# Altium schematic symbol library ESP32-S3-WROOM-1.SchLib: 61 symbols (part 6 of 7)
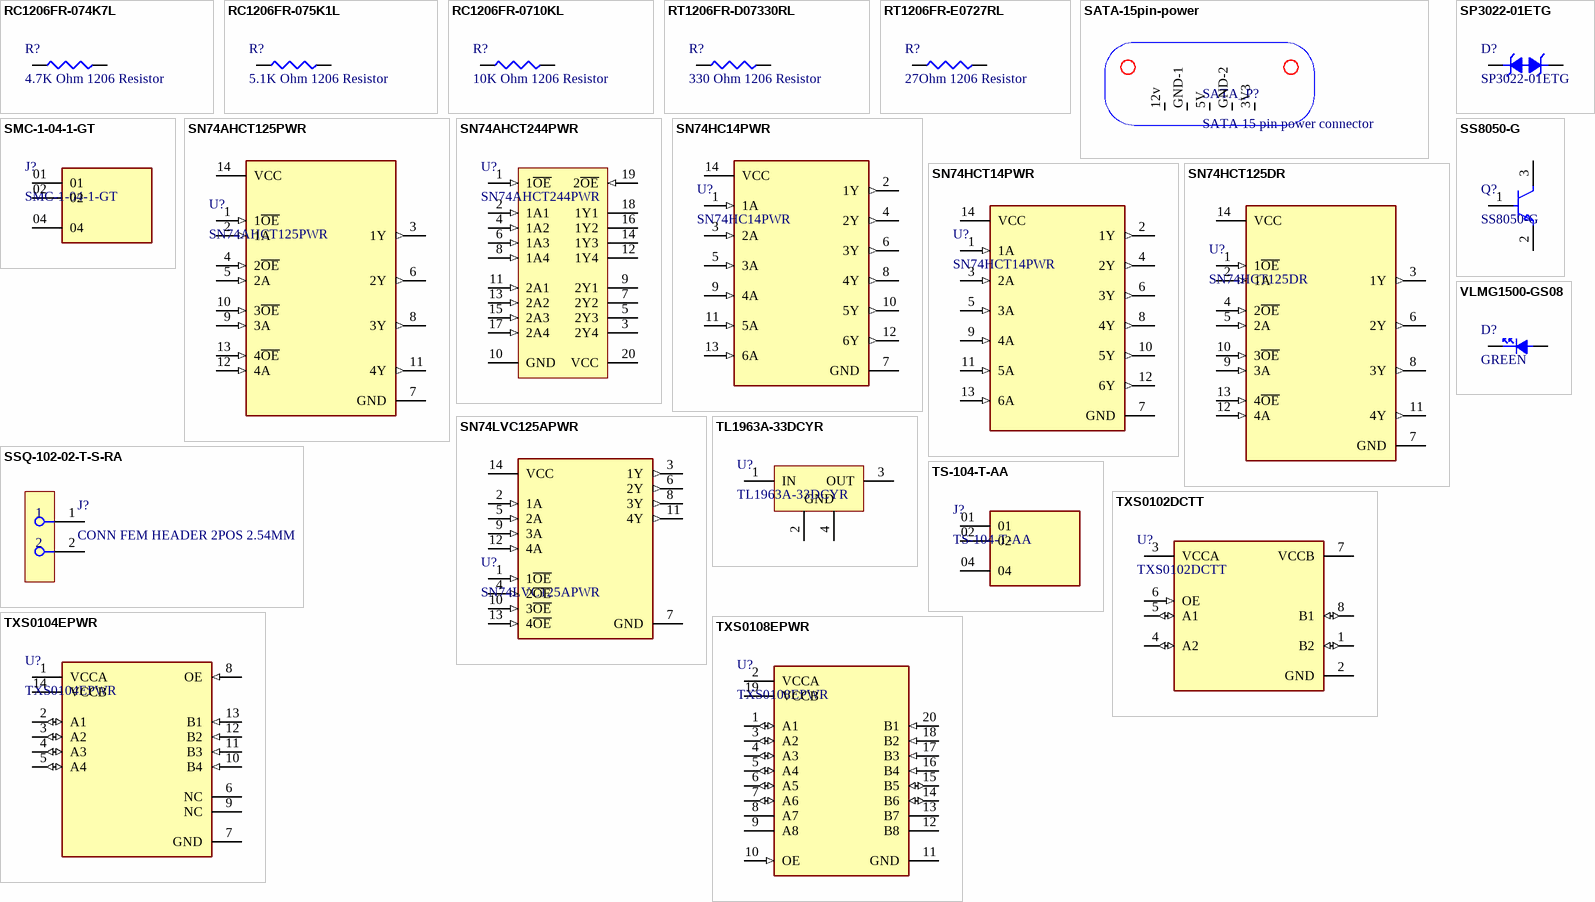
[diagram p6: symbols RC1206FR-074K7L to VLMG1500-GS08]

## SN74LVC125APWR
designator U?
IC BUFF NON-INVERT 3.6V 14-TSSOP; Manufacturer: Texas Instruments; Manufacturer Lifecycle Status: ACTIVE; High Level Output Current: -24mA; Logic Function: Buffer, Inverting; Low Level Output Current: 24mA; Max Power Dissipation: 500mW; Min Supply Voltage: 1.65V; Nominal Supply Current: 1µA; Number of Bits: 4; Number of Bits per Element: 1; Number of Output Lines: 3; Polarity: Non-Inverting; Propagation Delay: 3ns; Turn-On Delay Time: 5.3ns; Supplier: DigiKey; Supplier Part Number: 296-1222-1-ND; Manufacturer Part Number: SN74LVC125APWR; RoHS: Compliant; Category: Buffers, Drivers and Transceivers; Pricing: 1=0.32, 10=0.22, 25=0.32, 100=0.169, 250=0.15624, 500=0.14854, 1000=0.14221 (EUR); Case/Package: TSSOP; Contact Plating: Gold; Height: 0m; Lead Free: Lead Free; Length: 5mm; Lifecycle Status: Production; Max Operating Temperature: 125°C; Max Supply Voltage: 3.6V; Min Operating Temperature: -40°C; Mounting Technology: Surface Mount; Number of Channels: 4; Number of Circuits: 4; Number of Elements: 4; Number of Gates: 4; Number of Input Lines: 4; Number of Inputs: 4; Number of Outputs: 4; Pins: 14; Quiescent Current: 1µA; Radiation Hardening: No; REACH SVHC: No; Schedule B: 8542390000, 8542390000|8542390000|8542390000|8542390000|8542390000; Termination: SMD/SMT; Thickness: 1mm; Width: 4.4mm; ComponentLink1URL: https://sigma.octopart.com:443/182471031/technical_drawing/Texas-Instruments-SN74LVC125APWR.pdf?src-supplier=Texas+Instruments; ComponentLink1Description: https://sigma.octopart.com:443/182471031/technical_drawing/Texas-Instruments-SN74LVC125APWR.pdf?src-supplier=Texas+Instruments; ComponentLink2URL: https://octopart.com:443/opatz8j6/c1?t=m7tao46Cp5BsUR2xromxzcu3oyl3UTX2gSNpLcE7RSWnyA1bQlshO2PU7CYxg6hfD9UrHGXilfRXLnjlrfE5w5kuYWmj-tJCYobuLsDToAOK1nIBV0ONYcJLH1_lESx9fviRCOW4VE7n0ZX3Hmg4ZcGY_rK9D-_gs0tQkOIQzTQmwu3Ya5qSTNAkHV7h3Z-kGtrXzc7b3YEboIecKnWr6GWore2FsFKhC6Lr9KwAgRBdK9X6SrQOo5Eb11oGInVgxhKaIWuGbajALS1G30ssv9H2oVfdBG0eVA0umxvZs4CxE-QhSBDAdp1FUXwVZ_l4bHMif_Slmx_GFebhfHJwZRz9uFheQxDe-vdWkP1MZL1g_AEC6eOsKIj10qOuI-F5FmlBkyTL2A&src-supplier=Texas+Instruments; ComponentLink2Description: https://octopart.com:443/opatz8j6/c1?t=m7tao46Cp5BsUR2xromxzcu3oyl3UTX2gSNpLcE7RSWnyA1bQlshO2PU7CYxg6hfD9UrHGXilfRXLnjlrfE5w5kuYWmj-tJCYobuLsDToAOK1nIBV0ONYcJLH1_lESx9fviRCOW4VE7n0ZX3Hmg4ZcGY_rK9D-_gs0tQkOIQzTQmwu3Ya5qSTNAkHV7h3Z-kGtrXzc7b3YEboIecKnWr6GWore2FsFKhC6Lr9KwAgRBdK9X6SrQOo5Eb11oGInVgxhKaIWuGbajALS1G30ssv9H2oVfdBG0eVA0umxvZs4CxE-QhSBDAdp1FUXwVZ_l4bHMif_Slmx_GFebhfHJwZRz9uFheQxDe-vdWkP1MZL1g_AEC6eOsKIj10qOuI-F5FmlBkyTL2A&src-supplier=Texas+Instruments; ComponentLink3URL: https://datasheet.octopart.com:443/SN74LVC125APWR-Texas-Instruments-datasheet-10254735.pdf?src-supplier=Texas+Instruments; ComponentLink3Description: https://datasheet.octopart.com:443/SN74LVC125APWR-Texas-Instruments-datasheet-10254735.pdf?src-supplier=Texas+Instruments; ComponentLink4URL: https://sigma.octopart.com:443/49249819/technical_drawing/Texas-Instruments-SN74LVC125APWR.pdf?src-supplier=Texas+Instruments; ComponentLink4Description: https://sigma.octopart.com:443/49249819/technical_drawing/Texas-Instruments-SN74LVC125APWR.pdf?src-supplier=Texas+Instruments; ComponentLink5URL: https://datasheet.octopart.com:443/SN74LVC125APWR-Texas-Instruments-datasheet-150516.pdf?src-supplier=Texas+Instruments; ComponentLink5Description: https://datasheet.octopart.com:443/SN74LVC125APWR-Texas-Instruments-datasheet-150516.pdf?src-supplier=Texas+Instruments; ComponentLink6URL: https://datasheet.octopart.com:443/SN74LVC125APWR-Texas-Instruments-datasheet-37101729.pdf?src-supplier=Farnell; ComponentLink6Description: https://datasheet.octopart.com:443/SN74LVC125APWR-Texas-Instruments-datasheet-37101729.pdf?src-supplier=Farnell; ComponentLink7URL: https://datasheet.octopart.com:443/SN74LVC125APWR-Texas-Instruments-datasheet-8815742.pdf?src-supplier=Farnell; ComponentLink7Description: https://datasheet.octopart.com:443/SN74LVC125APWR-Texas-Instruments-datasheet-8815742.pdf?src-supplier=Farnell; ComponentLink8URL: https://datasheet.octopart.com:443/SN74LVC125APWR-Texas-Instruments-datasheet-8758542.pdf?src-supplier=Farnell; ComponentLink8Description: https://datasheet.octopart.com:443/SN74LVC125APWR-Texas-Instruments-datasheet-8758542.pdf?src-supplier=Farnell; ComponentLink9URL: https://datasheet.octopart.com:443/SN74LVC125APWR-Texas-Instruments-datasheet-8384538.pdf?src-supplier=Farnell; ComponentLink9Description: https://datasheet.octopart.com:443/SN74LVC125APWR-Texas-Instruments-datasheet-8384538.pdf?src-supplier=Farnell; ComponentLink10URL: https://datasheet.octopart.com:443/SN74LVC125APWR-Texas-Instruments-datasheet-8141996.pdf?src-supplier=Farnell; ComponentLink10Description: https://datasheet.octopart.com:443/SN74LVC125APWR-Texas-Instruments-datasheet-8141996.pdf?src-supplier=Farnell; ComponentLink11URL: https://datasheet.octopart.com:443/SN74LVC125APWR-Texas-Instruments-datasheet-5375601.pdf?src-supplier=Farnell; ComponentLink11Description: https://datasheet.octopart.com:443/SN74LVC125APWR-Texas-Instruments-datasheet-5375601.pdf?src-supplier=Farnell; ComponentLink12URL: https://datasheet.octopart.com:443/SN74LVC125APWR.-Texas-Instruments-datasheet-48051172.pdf?src-supplier=Farnell; ComponentLink12Description: https://datasheet.octopart.com:443/SN74LVC125APWR.-Texas-Instruments-datasheet-48051172.pdf?src-supplier=Farnell; ComponentLink13URL: https://datasheet.octopart.com:443/SN74LVC125APWR-Texas-Instruments-datasheet-10079432.pdf?src-supplier=Farnell; ComponentLink13Description: https://datasheet.octopart.com:443/SN74LVC125APWR-Texas-Instruments-datasheet-10079432.pdf?src-supplier=Farnell; ComponentLink14URL: https://datasheet.octopart.com:443/SN74LVC125APWR-Texas-Instruments-datasheet-8703072.pdf?src-supplier=Farnell; ComponentLink14Description: https://datasheet.octopart.com:443/SN74LVC125APWR-Texas-Instruments-datasheet-8703072.pdf?src-supplier=Farnell; ComponentLink15URL: https://datasheet.octopart.com:443/SN74LVC125APWR-Texas-Instruments-datasheet-8702091.pdf?src-supplier=Farnell; ComponentLink15Description: https://datasheet.octopart.com:443/SN74LVC125APWR-Texas-Instruments-datasheet-8702091.pdf?src-supplier=Farnell; ComponentLink16URL: https://datasheet.octopart.com:443/SN74LVC125APWR-Texas-Instruments-datasheet-8636213.pdf?src-supplier=Farnell; ComponentLink16Description: https://datasheet.octopart.com:443/SN74LVC125APWR-Texas-Instruments-datasheet-8636213.pdf?src-supplier=Farnell; ComponentLink17URL: https://datasheet.octopart.com:443/SN74LVC125APWR-Texas-Instruments-datasheet-7836027.pdf?src-supplier=Farnell; ComponentLink17Description: https://datasheet.octopart.com:443/SN74LVC125APWR-Texas-Instruments-datasheet-7836027.pdf?src-supplier=Farnell; ComponentLink18URL: https://datasheet.octopart.com:443/SN74LVC125APWR-Texas-Instruments-datasheet-7543160.pdf?src-supplier=Farnell; ComponentLink18Description: https://datasheet.octopart.com:443/SN74LVC125APWR-Texas-Instruments-datasheet-7543160.pdf?src-supplier=Farnell; ComponentLink19URL: https://datasheet.octopart.com:443/SN74LVC125APWR-Texas-Instruments-datasheet-5319739.pdf?src-supplier=Farnell; ComponentLink19Description: https://datasheet.octopart.com:443/SN74LVC125APWR-Texas-Instruments-datasheet-5319739.pdf?src-supplier=Farnell; ComponentLink20URL: https://datasheet.octopart.com:443/SN74LVC125APWR-Texas-Instruments-datasheet-21221564.pdf?src-supplier=Upverter; ComponentLink20Description: https://datasheet.octopart.com:443/SN74LVC125APWR-Texas-Instruments-datasheet-21221564.pdf?src-supplier=Upverter; ComponentLink21URL: https://datasheet.octopart.com:443/SN74LVC125APWR-Texas-Instruments-datasheet-62118761.pdf?src-supplier=Newark; ComponentLink21Description: https://datasheet.octopart.com:443/SN74LVC125APWR-Texas-Instruments-datasheet-62118761.pdf?src-supplier=Newark; ComponentLink22URL: https://datasheet.octopart.com:443/SN74LVC125APWR-Texas-Instruments-datasheet-79172.pdf?src-supplier=Newark; ComponentLink22Description: https://datasheet.octopart.com:443/SN74LVC125APWR-Texas-Instruments-datasheet-79172.pdf?src-supplier=Newark; ComponentLink23URL: https://datasheet.octopart.com:443/SN74LVC125APWR-Texas-Instruments-datasheet-33018789.pdf?src-supplier=element14+APAC; ComponentLink23Description: https://datasheet.octopart.com:443/SN74LVC125APWR-Texas-Instruments-datasheet-33018789.pdf?src-supplier=element14+APAC; ComponentLink24URL: https://datasheet.octopart.com:443/SN74LVC125APWR-Texas-Instruments-datasheet-166100981.pdf?src-supplier=Augswan; ComponentLink24Description: https://datasheet.octopart.com:443/SN74LVC125APWR-Texas-Instruments-datasheet-166100981.pdf?src-supplier=Augswan; ComponentLink25URL: https://datasheet.octopart.com:443/SN74LVC125APWR-Texas-Instruments-datasheet-159116505.pdf?src-supplier=LCSC; ComponentLink25Description: https://datasheet.octopart.com:443/SN74LVC125APWR-Texas-Instruments-datasheet-159116505.pdf?src-supplier=LCSC; ComponentLink26URL: https://datasheet.octopart.com:443/SN74LVC125APWR-Texas-Instruments-datasheet-147835652.pdf?src-supplier=SHENGYU+ELECTRONICS; ComponentLink26Description: https://datasheet.octopart.com:443/SN74LVC125APWR-Texas-Instruments-datasheet-147835652.pdf?src-supplier=SHENGYU+ELECTRONICS; ComponentLink27URL: https://datasheet.octopart.com:443/SN74LVC125APWR-Texas-Instruments-datasheet-14144586.pdf?src-supplier=iiiC; ComponentLink27Description: https://datasheet.octopart.com:443/SN74LVC125APWR-Texas-Instruments-datasheet-14144586.pdf?src-supplier=iiiC; ComponentLink28URL: https://datasheet.octopart.com:443/SN74LVC125APWR-Texas-Instruments-datasheet-11536687.pdf?src-supplier=Arrow+Electronics; ComponentLink28Description: https://datasheet.octopart.com:443/SN74LVC125APWR-Texas-Instruments-datasheet-11536687.pdf?src-supplier=Arrow+Electronics; ComponentLink29URL: https://datasheet.octopart.com:443/SN74LVC125APWR-Texas-Instruments-datasheet-7542750.pdf?src-supplier=Jameco; ComponentLink29Description: https://datasheet.octopart.com:443/SN74LVC125APWR-Texas-Instruments-datasheet-7542750.pdf?src-supplier=Jameco; ComponentLink30URL: https://datasheet.octopart.com:443/SN74LVC125APWR-Texas-Instruments-datasheet-114787.pdf?src-supplier=Sierra+IC; ComponentLink30Description: https://datasheet.octopart.com:443/SN74LVC125APWR-Texas-Instruments-datasheet-114787.pdf?src-supplier=Sierra+IC; ComponentLink31URL: https://datasheet.octopart.com:443/SN74LVC125APWR-Texas-Instruments-datasheet-32983.pdf?src-supplier=DigiKey; ComponentLink31Description: https://datasheet.octopart.com:443/SN74LVC125APWR-Texas-Instruments-datasheet-32983.pdf?src-supplier=DigiKey; ComponentLink32URL: http://sigma.octopart.com:80/conflict_mineral_statement/Texas-Instruments-company-63.pdf?src-supplier=Compliance+Statements; ComponentLink32Description: http://sigma.octopart.com:80/conflict_mineral_statement/Texas-Instruments-company-63.pdf?src-supplier=Compliance+Statements; ComponentLink33URL: http://sigma.octopart.com:80/reach_statement/Texas-Instruments-company-64.pdf?src-supplier=Compliance+Statements; ComponentLink33Description: http://sigma.octopart.com:80/reach_statement/Texas-Instruments-company-64.pdf?src-supplier=Compliance+Statements; LCSC Part Number: C7813
footprint SN74LVC125APWR
pins: 1 1~{OE} (in), 2 1A (in), 3 1Y (out), 4 2~{OE} (in), 5 2A (in), 6 2Y (out), 7 GND (power), 8 3Y (out), 9 3A (in), 10 3~{OE} (in), 11 4Y (out), 12 4A (in), 13 4~{OE} (in), 14 VCC (power)

## SP3022-01ETG
designator D?
TVS DIODE 5.3VWM 12VC SOD882; Manufacturer: Littelfuse; Clamping Voltage: 12V; Leakage Current: 100nA; Max Breakdown Voltage: 9V; Max Power Dissipation: 20W; Max Surge Current: 3A; Min Breakdown Voltage: 6.8V; Number of Bidirectional Channels: 1; Peak Pulse Current: 1A; Polarity: Bidirectional; Power Line Protection: No; Reverse Standoff Voltage: 5.3V; Supplier: DigiKey; Supplier Part Number: F6709CT-ND; Manufacturer Part Number: SP3022-01ETG; RoHS: Compliant; Category: TVS Diodes; Stock: 68383; Pricing: 1=0.15, 10=0.105 (EUR); Case/Package: SOD-882-2; Composition: Zener; Lifecycle Status: Production; Max Operating Temperature: 125°C; Min Operating Temperature: -40°C; Mounting Technology: Surface Mount; Number of Channels: 1; Number of Elements: 1; Pins: 2; Number of Terminals: 2; Peak Pulse Power: 20W; REACH SVHC: Yes; Termination: SMD/SMT; Working Voltage: 5.3V; ComponentLink1URL: https://datasheet.octopart.com:443/SP3022-01ETG-Littelfuse-datasheet-180609637.pdf?src-supplier=IHS; ComponentLink1Description: https://datasheet.octopart.com:443/SP3022-01ETG-Littelfuse-datasheet-180609637.pdf?src-supplier=IHS; ComponentLink2URL: https://datasheet.octopart.com:443/SP3022-01ETG-Littelfuse-datasheet-181956538.pdf?src-supplier=Newark; ComponentLink2Description: https://datasheet.octopart.com:443/SP3022-01ETG-Littelfuse-datasheet-181956538.pdf?src-supplier=Newark; ComponentLink3URL: https://datasheet.octopart.com:443/SP3022-01ETG-Littelfuse-datasheet-43876386.pdf?src-supplier=Newark; ComponentLink3Description: https://datasheet.octopart.com:443/SP3022-01ETG-Littelfuse-datasheet-43876386.pdf?src-supplier=Newark; ComponentLink4URL: https://datasheet.octopart.com:443/SP3022-01ETG-Littelfuse-datasheet-140480403.pdf?src-supplier=ODG+(Origin+Data+Global); ComponentLink4Description: https://datasheet.octopart.com:443/SP3022-01ETG-Littelfuse-datasheet-140480403.pdf?src-supplier=ODG+(Origin+Data+Global); ComponentLink5URL: https://datasheet.octopart.com:443/SP3022-01ETG-Littelfuse-datasheet-82968918.pdf?src-supplier=element14+APAC; ComponentLink5Description: https://datasheet.octopart.com:443/SP3022-01ETG-Littelfuse-datasheet-82968918.pdf?src-supplier=element14+APAC; ComponentLink6URL: https://datasheet.octopart.com:443/SP3022-01ETG-Littelfuse-datasheet-175469626.pdf?src-supplier=Future+Electronics; ComponentLink6Description: https://datasheet.octopart.com:443/SP3022-01ETG-Littelfuse-datasheet-175469626.pdf?src-supplier=Future+Electronics; ComponentLink7URL: https://datasheet.octopart.com:443/SP3022-01ETG-Littelfuse-datasheet-100434945.pdf?src-supplier=Future+Electronics; ComponentLink7Description: https://datasheet.octopart.com:443/SP3022-01ETG-Littelfuse-datasheet-100434945.pdf?src-supplier=Future+Electronics; Parameter 1: *; LCSC Part Number: C126840
footprint SP3022-01ETG
pins: 1, 2

## SS8050-G
designator Q?
TRANS NPN 25V 1.5A SOT-23-3; Manufacturer: Comchip; Collector Base Voltage (VCBO): 40V; Collector Emitter Saturation Voltage: 500mV; Emitter Base Voltage (VEBO): 5V; hFE Min: 40; Max Junction Temperature (Tj): 150°C; Max Power Dissipation: 300mW; Number of Elements: 1; Transition Frequency: 100MHz; Supplier: DigiKey; Supplier Part Number: 641-1790-1-ND; Manufacturer Part Number: SS8050-G; RoHS: Compliant; Category: BJTs; Stock: 59487; Pricing: 1=0.2, 10=0.126, 100=0.2, 500=0.05756, 1000=0.05078 (EUR); Case/Package: TO-236-3; Collector Emitter Breakdown Voltage: 25V; Collector Emitter Voltage (VCEO): 25V; Height: 1.15mm; Lifecycle Status: Production; Max Breakdown Voltage: 25V; Max Collector Current: 1.5A; Max Operating Temperature: 150°C; Mounting Technology: Surface Mount; Number of Terminals: 3; Power Dissipation: 300mW; REACH SVHC: Yes; Schedule B: 8541100070|8541100070|8541100070|8541100070|8541100070; ComponentLink1URL: https://datasheet.octopart.com:443/SS8050-G-Comchip-datasheet-180131983.pdf?src-supplier=IHS; ComponentLink1Description: https://datasheet.octopart.com:443/SS8050-G-Comchip-datasheet-180131983.pdf?src-supplier=IHS; ComponentLink2URL: https://datasheet.octopart.com:443/SS8050-G-Comchip-datasheet-155422643.pdf?src-supplier=Upverter; ComponentLink2Description: https://datasheet.octopart.com:443/SS8050-G-Comchip-datasheet-155422643.pdf?src-supplier=Upverter; ComponentLink3URL: https://datasheet.octopart.com:443/SS8050-G-Comchip-datasheet-189767092.pdf?src-supplier=ODG+(Origin+Data+Global); ComponentLink3Description: https://datasheet.octopart.com:443/SS8050-G-Comchip-datasheet-189767092.pdf?src-supplier=ODG+(Origin+Data+Global); LCSC Part Number: C164886
footprint SS8050-G
pins: 1 B, 2 E, 3 C

## SSQ-102-02-T-S-RA
designator J?, comment CONN FEM HEADER 2POS 2.54MM
CONN RCPT 2POS 0.1 TIN PCB R/A; Manufacturer: Samtec; Manufacturer Part Number: SSQ-102-02-T-S-RA; Manufacturer Lifecycle Status: PRODUCTION; Connector Type: Receptacle, Socket; Contact Resistance: 10mΩ; Current Rating: 6.3A; Max Current Rating: 7.6A; Max Voltage Rating (AC): 550V; Number of Contacts: 2; Voltage Rating: 655V; Voltage Rating (AC): 465V; Supplier: DigiKey; Supplier Part Number: SAM1195-02-ND; RoHS: Compliant; Category: Headers and Wire Housings; Stock: 1713; Pricing: 1=0.46, 10=0.39, 100=0.46, 500=0.29552, 1000=0.28141, 5000=0.25688 (EUR); Color: Black; Contact Material: Nickel, Tin; Contact Plating: Tin; Depth: 10.03mm; Height: 2.54mm; Housing Color: Black; Lead Free: Lead Free; Lead Length: 2.54mm; Length: 5.59mm; Lifecycle Status: Production; Max Operating Temperature: 105°C; Min Operating Temperature: -55°C; Mounting Technology: Through Hole; Number of Positions: 2; Number of Rows: 1; Orientation: Right Angle; Packaging: Bulk; Pitch: 2.54mm; Radiation Hardening: No; Termination: Solder; Voltage Rating (DC): 655V; Width: 8.51mm; ComponentLink1URL: https://datasheet.octopart.com:443/SSQ-102-02-T-S-RA-Samtec-datasheet-150873487.pdf?src-supplier=Upverter; ComponentLink1Description: https://datasheet.octopart.com:443/SSQ-102-02-T-S-RA-Samtec-datasheet-150873487.pdf?src-supplier=Upverter; ComponentLink2URL: https://sigma.octopart.com:443/17020302/technical_drawing/Samtec-SSQ-102-02-T-S-RA.pdf?src-supplier=Upverter; ComponentLink2Description: https://sigma.octopart.com:443/17020302/technical_drawing/Samtec-SSQ-102-02-T-S-RA.pdf?src-supplier=Upverter; ComponentLink3URL: https://datasheet.octopart.com:443/SSQ-102-02-T-S-RA-Samtec-datasheet-97291133.pdf?src-supplier=element14+APAC; ComponentLink3Description: https://datasheet.octopart.com:443/SSQ-102-02-T-S-RA-Samtec-datasheet-97291133.pdf?src-supplier=element14+APAC; ComponentLink4URL: https://sigma.octopart.com:443/97291134/technical_drawing/Samtec-SSQ-102-02-T-S-RA.pdf?src-supplier=Samtec; ComponentLink4Description: https://sigma.octopart.com:443/97291134/technical_drawing/Samtec-SSQ-102-02-T-S-RA.pdf?src-supplier=Samtec; ComponentLink5URL: https://datasheet.octopart.com:443/SSQ-102-02-T-S-RA-Samtec-datasheet-118235309.pdf?src-supplier=Electro+Sonic; ComponentLink5Description: https://datasheet.octopart.com:443/SSQ-102-02-T-S-RA-Samtec-datasheet-118235309.pdf?src-supplier=Electro+Sonic; ComponentLink6URL: https://datasheet.octopart.com:443/SSQ-102-02-T-S-RA-Samtec-datasheet-86818373.pdf?src-supplier=Sager+Electronics; ComponentLink6Description: https://datasheet.octopart.com:443/SSQ-102-02-T-S-RA-Samtec-datasheet-86818373.pdf?src-supplier=Sager+Electronics; ComponentLink7URL: https://datasheet.octopart.com:443/SSQ-102-02-T-S-RA-Samtec-datasheet-133811811.pdf?src-supplier=JRH+Electronics; ComponentLink7Description: https://datasheet.octopart.com:443/SSQ-102-02-T-S-RA-Samtec-datasheet-133811811.pdf?src-supplier=JRH+Electronics; LCSC Part Number: C6824759
footprint SSQ-102-02-T-S-RA (Recommended Land Pattern)
pins: 1, 2

## TL1963A-33DCYR
designator U?
IC REG LIN 3.3V 1.5A SOT-223-4; Manufacturer: Texas Instruments; Manufacturer Lifecycle Status: ACTIVE; Accuracy: 3%; Dropout Voltage: 340mV; Input Bias Current: 1mA; Max Supply Voltage: 20V; Min Current Limit: 1.6A; Min Input Voltage: 2.1V; Number of Outputs: 1; Output Type: Fixed; Polarity: Positive; Supplier: DigiKey; Supplier Part Number: 296-24897-1-ND; Manufacturer Part Number: TL1963A-33DCYR; RoHS: Compliant; Category: LDO Voltage Regulators; Stock: 5375; Pricing: 1=3.13, 10=2.344, 25=2.1476, 100=1.9323, 250=1.82956, 500=1.76766, 1000=1.71669 (USD); Case/Package: SOT-223; Contact Plating: Tin; Height: 1.8mm; Lead Free: Lead Free; Length: 6.5mm; Lifecycle Status: Production; Max Operating Temperature: 125°C; Max Output current: 1.5A; Max Output Voltage: 3.3V; Min Operating Temperature: -40°C; Min Output Voltage: 3.3V; Nominal Output Voltage: 3.3V; Pins: 4; Number of Regulators: 1; Output Current: 1.5A; Output Voltage: 3.3V; Quiescent Current: 1mA; Radiation Hardening: No; REACH SVHC: No; Schedule B: 8542390000, 8542390000|8542390000|8542390000|8542390000|8542390000; Thickness: 1.6mm; Width: 3.5mm; ComponentLink1URL: https://datasheet.octopart.com:443/TL1963A-33DCYR-Texas-Instruments-datasheet-36835243.pdf?src-supplier=Texas+Instruments; ComponentLink1Description: https://datasheet.octopart.com:443/TL1963A-33DCYR-Texas-Instruments-datasheet-36835243.pdf?src-supplier=Texas+Instruments; ComponentLink2URL: https://octopart.com:443/opatz8j6/c1?t=_hjM26srJTXimlWoz0hwPmhPShOdWqTTtZlxgPl76YIpI1e1lfOz6vFK3g9fy8jCwZdjRD39bKFl-SwUtt_X2elGu_a5JyIUi3ab4jqFwEdIcyGCqZDuCLNIP_w3GIZJ3P8n--D5b1rjIWS7LXwM19STenXNZbu8p0KFA8W7oBQV_ivRudpmZT50mMX2Vp98314N_6rp1Q36UB5gvpMsO63PTK3-vNOMGMPut6fT06y9PbrxSSFyecCsjNz6UlCyiFpcw-0KU9-TlLviTiFtZ9ayjlXBaBFlI8Jpt0Bt73Yqu16_MFihcf6dJVjVpyanKPDUZcqeEH_eZkGEYIRopIdqDftcfwP1SsajeGZNSMlrkFfMF6GGJRK0ej6tF3tO9HLN2g&src-supplier=Texas+Instruments; ComponentLink2Description: https://octopart.com:443/opatz8j6/c1?t=_hjM26srJTXimlWoz0hwPmhPShOdWqTTtZlxgPl76YIpI1e1lfOz6vFK3g9fy8jCwZdjRD39bKFl-SwUtt_X2elGu_a5JyIUi3ab4jqFwEdIcyGCqZDuCLNIP_w3GIZJ3P8n--D5b1rjIWS7LXwM19STenXNZbu8p0KFA8W7oBQV_ivRudpmZT50mMX2Vp98314N_6rp1Q36UB5gvpMsO63PTK3-vNOMGMPut6fT06y9PbrxSSFyecCsjNz6UlCyiFpcw-0KU9-TlLviTiFtZ9ayjlXBaBFlI8Jpt0Bt73Yqu16_MFihcf6dJVjVpyanKPDUZcqeEH_eZkGEYIRopIdqDftcfwP1SsajeGZNSMlrkFfMF6GGJRK0ej6tF3tO9HLN2g&src-supplier=Texas+Instruments; ComponentLink3URL: https://datasheet.octopart.com:443/TL1963A-33DCYR-Texas-Instruments-datasheet-10255270.pdf?src-supplier=Texas+Instruments; ComponentLink3Description: https://datasheet.octopart.com:443/TL1963A-33DCYR-Texas-Instruments-datasheet-10255270.pdf?src-supplier=Texas+Instruments; ComponentLink4URL: https://sigma.octopart.com:443/49253063/technical_drawing/Texas-Instruments-TL1963A-33DCYR.pdf?src-supplier=Texas+Instruments; ComponentLink4Description: https://sigma.octopart.com:443/49253063/technical_drawing/Texas-Instruments-TL1963A-33DCYR.pdf?src-supplier=Texas+Instruments; ComponentLink5URL: https://datasheet.octopart.com:443/TL1963A-33DCYR-Texas-Instruments-datasheet-159117591.pdf?src-supplier=Augswan; ComponentLink5Description: https://datasheet.octopart.com:443/TL1963A-33DCYR-Texas-Instruments-datasheet-159117591.pdf?src-supplier=Augswan; ComponentLink6URL: https://datasheet.octopart.com:443/TL1963A-33DCYR-Texas-Instruments-datasheet-21820479.pdf?src-supplier=Newark; ComponentLink6Description: https://datasheet.octopart.com:443/TL1963A-33DCYR-Texas-Instruments-datasheet-21820479.pdf?src-supplier=Newark; ComponentLink7URL: https://datasheet.octopart.com:443/TL1963A-33DCYR-Texas-Instruments-datasheet-16079880.pdf?src-supplier=Farnell; ComponentLink7Description: https://datasheet.octopart.com:443/TL1963A-33DCYR-Texas-Instruments-datasheet-16079880.pdf?src-supplier=Farnell; ComponentLink8URL: https://datasheet.octopart.com:443/TL1963A-33DCYR-Texas-Instruments-datasheet-14171511.pdf?src-supplier=iiiC; ComponentLink8Description: https://datasheet.octopart.com:443/TL1963A-33DCYR-Texas-Instruments-datasheet-14171511.pdf?src-supplier=iiiC; ComponentLink9URL: http://sigma.octopart.com:80/conflict_mineral_statement/Texas-Instruments-company-63.pdf?src-supplier=Compliance+Statements; ComponentLink9Description: http://sigma.octopart.com:80/conflict_mineral_statement/Texas-Instruments-company-63.pdf?src-supplier=Compliance+Statements; ComponentLink10URL: http://sigma.octopart.com:80/reach_statement/Texas-Instruments-company-64.pdf?src-supplier=Compliance+Statements; ComponentLink10Description: http://sigma.octopart.com:80/reach_statement/Texas-Instruments-company-64.pdf?src-supplier=Compliance+Statements; LCSC Part Number: C181262
footprint TL1963A-33DCYR (SOT223, 4-Leads, Body 6.7x3.7mm, Pitch 2.3mm, IPC Medium Density)
pins: 1 IN (power) "Input. Power is supplied to the device through the IN pin. A bypass capacitor is required on this pin if the device is more than six inches away from the main input filter capacitor. In general, the output impedance of a (See Datasheet)", 2 GND (power) "Ground", 3 OUT (power) "Output. The output supplies power to the load. A minimum output capacitor (ceramic) of 10 uF is required to prevent oscillations. Larger output capacitors are required for applications with large transient loads to limit (See Datasheet)", 4 GND (power) "Ground"

## TS-104-T-AA
designator J?
NEEDLE CONN HEADER VERT 4POS 2.54MM; Manufacturer: Samtec; Manufacturer Lifecycle Status: PRODUCTION; Gender: Male; Max Current Rating: 1A; Number of Contacts: 4; Supplier: DigiKey; Supplier Part Number: SAM16040-ND; Manufacturer Part Number: TS-104-T-AA; RoHS: Compliant; Category: Headers and Wire Housings; Stock: 919; Pricing: 1=0.62, 50=0.4858, 100=0.62, 500=0.3324, 1000=0.31706 (EUR); Contact Material: Brass; Contact Plating: Tin; Lifecycle Status: Production; Max Operating Temperature: 105°C; Min Operating Temperature: -55°C; Mounting Technology: Through Hole; Number of Rows: 1; Orientation: Straight; Pitch: 2.54mm; Radiation Hardening: No; REACH SVHC: No; Termination: Solder; ComponentLink1URL: https://datasheet.octopart.com:443/TS-104-T-AA-Samtec-datasheet-97318998.pdf?src-supplier=Master+Electronics; ComponentLink1Description: https://datasheet.octopart.com:443/TS-104-T-AA-Samtec-datasheet-97318998.pdf?src-supplier=Master+Electronics; ComponentLink2URL: https://datasheet.octopart.com:443/TS-104-T-AA-Samtec-datasheet-150856305.pdf?src-supplier=Electro+Sonic; ComponentLink2Description: https://datasheet.octopart.com:443/TS-104-T-AA-Samtec-datasheet-150856305.pdf?src-supplier=Electro+Sonic; ComponentLink3URL: https://datasheet.octopart.com:443/TS-104-T-AA-Samtec-datasheet-13698575.pdf?src-supplier=Electro+Sonic; ComponentLink3Description: https://datasheet.octopart.com:443/TS-104-T-AA-Samtec-datasheet-13698575.pdf?src-supplier=Electro+Sonic; ComponentLink4URL: https://datasheet.octopart.com:443/TS-104-T-AA-Samtec-datasheet-37173861.pdf?src-supplier=Electro+Sonic; ComponentLink4Description: https://datasheet.octopart.com:443/TS-104-T-AA-Samtec-datasheet-37173861.pdf?src-supplier=Electro+Sonic; ComponentLink5URL: https://datasheet.octopart.com:443/TS-104-T-AA-Samtec-datasheet-41643166.pdf?src-supplier=Farnell; ComponentLink5Description: https://datasheet.octopart.com:443/TS-104-T-AA-Samtec-datasheet-41643166.pdf?src-supplier=Farnell; ComponentLink6URL: https://datasheet.octopart.com:443/TS-104-T-AA-Samtec-datasheet-28904454.pdf?src-supplier=Farnell; ComponentLink6Description: https://datasheet.octopart.com:443/TS-104-T-AA-Samtec-datasheet-28904454.pdf?src-supplier=Farnell; ComponentLink7URL: https://datasheet.octopart.com:443/TS-104-T-AA-Samtec-datasheet-8451641.pdf?src-supplier=Farnell; ComponentLink7Description: https://datasheet.octopart.com:443/TS-104-T-AA-Samtec-datasheet-8451641.pdf?src-supplier=Farnell; ComponentLink8URL: https://datasheet.octopart.com:443/TS-104-T-AA-Samtec-datasheet-179090728.pdf?src-supplier=Sager+Electronics; ComponentLink8Description: https://datasheet.octopart.com:443/TS-104-T-AA-Samtec-datasheet-179090728.pdf?src-supplier=Sager+Electronics; ComponentLink9URL: https://datasheet.octopart.com:443/TS-104-T-AA-Samtec-datasheet-118235246.pdf?src-supplier=Sager+Electronics; ComponentLink9Description: https://datasheet.octopart.com:443/TS-104-T-AA-Samtec-datasheet-118235246.pdf?src-supplier=Sager+Electronics; ComponentLink10URL: https://datasheet.octopart.com:443/TS-104-T-AA-Samtec-datasheet-116533476.pdf?src-supplier=Toby+Electronics; ComponentLink10Description: https://datasheet.octopart.com:443/TS-104-T-AA-Samtec-datasheet-116533476.pdf?src-supplier=Toby+Electronics; ComponentLink11URL: https://datasheet.octopart.com:443/TS-104-T-AA-Samtec-datasheet-116536303.pdf?src-supplier=Toby+Electronics; ComponentLink11Description: https://datasheet.octopart.com:443/TS-104-T-AA-Samtec-datasheet-116536303.pdf?src-supplier=Toby+Electronics; LCSC Part Number: C6886151
footprint TS-104-T-AA
pins: 01, 02, 04

## TXS0102DCTT
designator U?
IC XLTR VL BIDIR SM8; Manufacturer: Texas Instruments; Manufacturer Lifecycle Status: ACTIVE; Data Rate: 24Mbps; High Level Output Current: -20µA; Logic Function: Translator; Low Level Output Current: 1mA; Max Supply Voltage: 5.5V; Min Supply Voltage: 1.65V; Number of Bits: 2; Output Type: Voltage; Propagation Delay: 260ns; Quiescent Current: 14.4µA; Supplier: DigiKey; Supplier Part Number: 296-32603-1-ND; Manufacturer Part Number: TXS0102DCTT; RoHS: Compliant; Category: Voltage Level Shifters; Stock: 2646; Pricing: 1=0.84, 10=0.607, 25=0.84, 100=0.4823 (EUR); Case/Package: SSOP; Contact Plating: Gold; Height: 1.3mm; Lead Free: Lead Free; Length: 2.95mm; Lifecycle Status: Production; Max Operating Temperature: 85°C; Min Operating Temperature: -40°C; Mounting Technology: Surface Mount; Number of Channels: 2; Number of Inputs: 2; Pins: 8; Output Current: 1mA; Radiation Hardening: No; REACH SVHC: No; Schedule B: 8542390000, 8542390000|8542390000|8542390000|8542390000|8542390000; Thickness: 1.29mm; Turn-On Delay Time: 260ns; Weight: 23.388357mg; Width: 2.8mm; ComponentLink1URL: https://sigma.octopart.com:443/154719557/technical_drawing/Texas-Instruments-TXS0102DCTT.pdf?src-supplier=Texas+Instruments; ComponentLink1Description: https://sigma.octopart.com:443/154719557/technical_drawing/Texas-Instruments-TXS0102DCTT.pdf?src-supplier=Texas+Instruments; ComponentLink2URL: https://octopart.com:443/opatz8j6/c1?t=E4R2Eaax4hVGdPeEVzJ4gkUh3nnsrHoOour21Zl2PzEYQ-bKun46UuTQmN5SmJNlHr2MN0dygUqsw7JioWoTKuAP2BHlSCWFo-TjZUaVeYrSnVZSGJ_Glnf5uw4q0S6o2BkL99zqCVR0l2toQcRu2hlwiNrHpc73CtYInpQ0G1iz-OsDFe77UTdj8dJ9JwwwMiYUwKp_DG-WfXRvHH-QIAYHoJT9FgpgXX1jlsZKiKvyrZCAYOvzmIO2K3-CyjjScMw3aD6_lreNJ_QqZ2GdBB_uljh_fBrzAX2zCbBRQ0CW3Cau6P5nyAI7VRUU2nDdhc-R337O6QHcHx2uPNu4SHtWdfIOwX_Lvr4jn97D1Z4g5KJ7FXfMjY26Xmd_V9c1RYRwqA&src-supplier=Texas+Instruments; ComponentLink2Description: https://octopart.com:443/opatz8j6/c1?t=E4R2Eaax4hVGdPeEVzJ4gkUh3nnsrHoOour21Zl2PzEYQ-bKun46UuTQmN5SmJNlHr2MN0dygUqsw7JioWoTKuAP2BHlSCWFo-TjZUaVeYrSnVZSGJ_Glnf5uw4q0S6o2BkL99zqCVR0l2toQcRu2hlwiNrHpc73CtYInpQ0G1iz-OsDFe77UTdj8dJ9JwwwMiYUwKp_DG-WfXRvHH-QIAYHoJT9FgpgXX1jlsZKiKvyrZCAYOvzmIO2K3-CyjjScMw3aD6_lreNJ_QqZ2GdBB_uljh_fBrzAX2zCbBRQ0CW3Cau6P5nyAI7VRUU2nDdhc-R337O6QHcHx2uPNu4SHtWdfIOwX_Lvr4jn97D1Z4g5KJ7FXfMjY26Xmd_V9c1RYRwqA&src-supplier=Texas+Instruments; ComponentLink3URL: https://datasheet.octopart.com:443/TXS0102DCTT-Texas-Instruments-datasheet-41205338.pdf?src-supplier=Texas+Instruments; ComponentLink3Description: https://datasheet.octopart.com:443/TXS0102DCTT-Texas-Instruments-datasheet-41205338.pdf?src-supplier=Texas+Instruments; ComponentLink4URL: https://datasheet.octopart.com:443/TXS0102DCTT-Texas-Instruments-datasheet-32869024.pdf?src-supplier=Texas+Instruments; ComponentLink4Description: https://datasheet.octopart.com:443/TXS0102DCTT-Texas-Instruments-datasheet-32869024.pdf?src-supplier=Texas+Instruments; ComponentLink5URL: https://datasheet.octopart.com:443/TXS0102DCTT-Texas-Instruments-datasheet-10257580.pdf?src-supplier=Texas+Instruments; ComponentLink5Description: https://datasheet.octopart.com:443/TXS0102DCTT-Texas-Instruments-datasheet-10257580.pdf?src-supplier=Texas+Instruments; ComponentLink6URL: https://sigma.octopart.com:443/49249897/technical_drawing/Texas-Instruments-TXS0102DCTT.pdf?src-supplier=Texas+Instruments; ComponentLink6Description: https://sigma.octopart.com:443/49249897/technical_drawing/Texas-Instruments-TXS0102DCTT.pdf?src-supplier=Texas+Instruments; ComponentLink7URL: https://datasheet.octopart.com:443/TXS0102DCTT-Texas-Instruments-datasheet-33026335.pdf?src-supplier=Newark; ComponentLink7Description: https://datasheet.octopart.com:443/TXS0102DCTT-Texas-Instruments-datasheet-33026335.pdf?src-supplier=Newark; ComponentLink8URL: https://datasheet.octopart.com:443/TXS0102DCTT-Texas-Instruments-datasheet-32038250.pdf?src-supplier=Newark; ComponentLink8Description: https://datasheet.octopart.com:443/TXS0102DCTT-Texas-Instruments-datasheet-32038250.pdf?src-supplier=Newark; ComponentLink9URL: https://datasheet.octopart.com:443/TXS0102DCTT-Texas-Instruments-datasheet-33012940.pdf?src-supplier=Newark; ComponentLink9Description: https://datasheet.octopart.com:443/TXS0102DCTT-Texas-Instruments-datasheet-33012940.pdf?src-supplier=Newark; ComponentLink10URL: https://datasheet.octopart.com:443/TXS0102DCTT-Texas-Instruments-datasheet-101363803.pdf?src-supplier=Farnell; ComponentLink10Description: https://datasheet.octopart.com:443/TXS0102DCTT-Texas-Instruments-datasheet-101363803.pdf?src-supplier=Farnell; ComponentLink11URL: https://datasheet.octopart.com:443/TXS0102DCTT-Texas-Instruments-datasheet-10911753.pdf?src-supplier=Farnell; ComponentLink11Description: https://datasheet.octopart.com:443/TXS0102DCTT-Texas-Instruments-datasheet-10911753.pdf?src-supplier=Farnell; ComponentLink12URL: https://datasheet.octopart.com:443/TXS0102DCTT-Texas-Instruments-datasheet-12517898.pdf?src-supplier=Farnell; ComponentLink12Description: https://datasheet.octopart.com:443/TXS0102DCTT-Texas-Instruments-datasheet-12517898.pdf?src-supplier=Farnell; ComponentLink13URL: https://datasheet.octopart.com:443/TXS0102DCTT-Texas-Instruments-datasheet-62116161.pdf?src-supplier=element14+APAC; ComponentLink13Description: https://datasheet.octopart.com:443/TXS0102DCTT-Texas-Instruments-datasheet-62116161.pdf?src-supplier=element14+APAC; ComponentLink14URL: https://datasheet.octopart.com:443/TXS0102DCTT-Texas-Instruments-datasheet-168584740.pdf?src-supplier=LCSC; ComponentLink14Description: https://datasheet.octopart.com:443/TXS0102DCTT-Texas-Instruments-datasheet-168584740.pdf?src-supplier=LCSC; ComponentLink15URL: https://datasheet.octopart.com:443/TXS0102DCTT-Texas-Instruments-datasheet-159598263.pdf?src-supplier=LCSC; ComponentLink15Description: https://datasheet.octopart.com:443/TXS0102DCTT-Texas-Instruments-datasheet-159598263.pdf?src-supplier=LCSC; ComponentLink16URL: https://datasheet.octopart.com:443/TXS0102DCTT-Texas-Instruments-datasheet-159118388.pdf?src-supplier=LCSC; ComponentLink16Description: https://datasheet.octopart.com:443/TXS0102DCTT-Texas-Instruments-datasheet-159118388.pdf?src-supplier=LCSC; ComponentLink17URL: https://datasheet.octopart.com:443/TXS0102DCTT-Texas-Instruments-datasheet-164421213.pdf?src-supplier=SHENGYU+ELECTRONICS; ComponentLink17Description: https://datasheet.octopart.com:443/TXS0102DCTT-Texas-Instruments-datasheet-164421213.pdf?src-supplier=SHENGYU+ELECTRONICS; ComponentLink18URL: https://datasheet.octopart.com:443/TXS0102DCTT-Texas-Instruments-datasheet-8482820.pdf?src-supplier=element14; ComponentLink18Description: https://datasheet.octopart.com:443/TXS0102DCTT-Texas-Instruments-datasheet-8482820.pdf?src-supplier=element14; ComponentLink19URL: https://datasheet.octopart.com:443/TXS0102DCTT-Texas-Instruments-datasheet-7564122.pdf?src-supplier=element14; ComponentLink19Description: https://datasheet.octopart.com:443/TXS0102DCTT-Texas-Instruments-datasheet-7564122.pdf?src-supplier=element14; ComponentLink20URL: http://sigma.octopart.com:80/conflict_mineral_statement/Texas-Instruments-company-63.pdf?src-supplier=Compliance+Statements; ComponentLink20Description: http://sigma.octopart.com:80/conflict_mineral_statement/Texas-Instruments-company-63.pdf?src-supplier=Compliance+Statements; ComponentLink21URL: http://sigma.octopart.com:80/reach_statement/Texas-Instruments-company-64.pdf?src-supplier=Compliance+Statements; ComponentLink21Description: http://sigma.octopart.com:80/reach_statement/Texas-Instruments-company-64.pdf?src-supplier=Compliance+Statements; LCSC Part Number: C2677354
footprint TXS0102DCTT
pins: 1 B2 (io), 2 GND (power), 3 VCCA (power), 4 A2 (io), 5 A1 (io), 6 OE (in), 7 VCCB (power), 8 B1 (io)

## TXS0104EPWR
designator U?
IC XLTR VL BIDIR 14-TSSOP; Manufacturer: Texas Instruments; Manufacturer Lifecycle Status: ACTIVE; Data Rate: 24mbps; High Level Output Current: -20µA; Logic Function: Translator; Low Level Output Current: 1mA; Max Junction Temperature (Tj): 150°C; Max Supply Voltage: 5.5V; Min Supply Voltage: 1.65V; Number of Bits: 4; Output Current: 50mA; Output Type: Voltage; Propagation Delay: 4.6ns; Quiescent Current: 14.4µA; Turn-On Delay Time: 260ns; Supplier: DigiKey; Supplier Part Number: 296-20697-1-ND; Manufacturer Part Number: TXS0104EPWR; RoHS: Compliant; Category: Voltage Level Shifters; Stock: 12243; Pricing: 1=0.76, 10=0.546, 25=0.76, 100=0.4326, 250=0.40424, 500=0.3871, 1000=0.38563 (EUR); Ambient Temperature Range High: 85°C; Case/Package: TSSOP; Height: 0m; Lead Free: Lead Free; Length: 5mm; Lifecycle Status: Production; Max Operating Temperature: 85°C; Min Operating Temperature: -40°C; Mounting Technology: Surface Mount; Number of Channels: 4; Number of Circuits: 4; Number of Inputs: 4; Number of Outputs: 4; Pins: 14; Radiation Hardening: No; REACH SVHC: No; Schedule B: 8542390000, 8542390000|8542390000|8542390000|8542390000|8542390000; Thickness: 1mm; Weight: 57.209338mg; Width: 4.4mm; ComponentLink1URL: https://sigma.octopart.com:443/182471031/technical_drawing/Texas-Instruments-TXS0104EPWR.pdf?src-supplier=Texas+Instruments; ComponentLink1Description: https://sigma.octopart.com:443/182471031/technical_drawing/Texas-Instruments-TXS0104EPWR.pdf?src-supplier=Texas+Instruments; ComponentLink2URL: https://octopart.com:443/opatz8j6/c1?t=F8yfQ-t-0Ra_Eo9ThTE6iPkBeRy_kKVAqSxL_uqwT9Got2dwzek0Ijyqd1FeHcBr3DKqMRbyNik-KHfC0vqfw3XJxoTNTNBhX_HaVYNqrjBS1AjSFfNQ01qj0OPRi8l4iUScz0adIUkza3hapvRxDwaNOPp3HKopRefg1ekM7GX44MmlyERhiyPqAEqV2Y3hWyA79-i5a1tbhkqi3WkTneoKaW0KZKTfqHlMI2MnVFQM3NLmS_tIchFkKk3ZsLnK7CfIHWuzx4uJ0lprdjqo-18654QKUZXHmbgduc1a3l7Ez_J13tUJkUDG-ORuoSwBzdt4hA71KxLi493OhDFYUuoHvdKeoFg842xJykdmLo-vPZmiWOlPMxe9-4Y9cEvlNgCcFA&src-supplier=Texas+Instruments; ComponentLink2Description: https://octopart.com:443/opatz8j6/c1?t=F8yfQ-t-0Ra_Eo9ThTE6iPkBeRy_kKVAqSxL_uqwT9Got2dwzek0Ijyqd1FeHcBr3DKqMRbyNik-KHfC0vqfw3XJxoTNTNBhX_HaVYNqrjBS1AjSFfNQ01qj0OPRi8l4iUScz0adIUkza3hapvRxDwaNOPp3HKopRefg1ekM7GX44MmlyERhiyPqAEqV2Y3hWyA79-i5a1tbhkqi3WkTneoKaW0KZKTfqHlMI2MnVFQM3NLmS_tIchFkKk3ZsLnK7CfIHWuzx4uJ0lprdjqo-18654QKUZXHmbgduc1a3l7Ez_J13tUJkUDG-ORuoSwBzdt4hA71KxLi493OhDFYUuoHvdKeoFg842xJykdmLo-vPZmiWOlPMxe9-4Y9cEvlNgCcFA&src-supplier=Texas+Instruments; ComponentLink3URL: https://datasheet.octopart.com:443/TXS0104EPWR-Texas-Instruments-datasheet-17423550.pdf?src-supplier=Texas+Instruments; ComponentLink3Description: https://datasheet.octopart.com:443/TXS0104EPWR-Texas-Instruments-datasheet-17423550.pdf?src-supplier=Texas+Instruments; ComponentLink4URL: https://datasheet.octopart.com:443/TXS0104EPWR-Texas-Instruments-datasheet-10254998.pdf?src-supplier=Texas+Instruments; ComponentLink4Description: https://datasheet.octopart.com:443/TXS0104EPWR-Texas-Instruments-datasheet-10254998.pdf?src-supplier=Texas+Instruments; ComponentLink5URL: https://sigma.octopart.com:443/49249819/technical_drawing/Texas-Instruments-TXS0104EPWR.pdf?src-supplier=Texas+Instruments; ComponentLink5Description: https://sigma.octopart.com:443/49249819/technical_drawing/Texas-Instruments-TXS0104EPWR.pdf?src-supplier=Texas+Instruments; ComponentLink6URL: https://datasheet.octopart.com:443/TXS0104EPWR-Texas-Instruments-datasheet-151984.pdf?src-supplier=Texas+Instruments; ComponentLink6Description: https://datasheet.octopart.com:443/TXS0104EPWR-Texas-Instruments-datasheet-151984.pdf?src-supplier=Texas+Instruments; ComponentLink7URL: https://datasheet.octopart.com:443/TXS0104EPWR-Texas-Instruments-datasheet-34148596.pdf?src-supplier=Farnell; ComponentLink7Description: https://datasheet.octopart.com:443/TXS0104EPWR-Texas-Instruments-datasheet-34148596.pdf?src-supplier=Farnell; ComponentLink8URL: https://datasheet.octopart.com:443/TXS0104EPWR-Texas-Instruments-datasheet-21828336.pdf?src-supplier=Farnell; ComponentLink8Description: https://datasheet.octopart.com:443/TXS0104EPWR-Texas-Instruments-datasheet-21828336.pdf?src-supplier=Farnell; ComponentLink9URL: https://datasheet.octopart.com:443/TXS0104EPWR-Texas-Instruments-datasheet-17023331.pdf?src-supplier=Upverter; ComponentLink9Description: https://datasheet.octopart.com:443/TXS0104EPWR-Texas-Instruments-datasheet-17023331.pdf?src-supplier=Upverter; ComponentLink10URL: https://datasheet.octopart.com:443/TXS0104EPWR-Texas-Instruments-datasheet-66618006.pdf?src-supplier=element14+APAC; ComponentLink10Description: https://datasheet.octopart.com:443/TXS0104EPWR-Texas-Instruments-datasheet-66618006.pdf?src-supplier=element14+APAC; ComponentLink11URL: https://datasheet.octopart.com:443/TXS0104EPWR.-Texas-Instruments-datasheet-48033022.pdf?src-supplier=element14+APAC; ComponentLink11Description: https://datasheet.octopart.com:443/TXS0104EPWR.-Texas-Instruments-datasheet-48033022.pdf?src-supplier=element14+APAC; ComponentLink12URL: https://datasheet.octopart.com:443/TXS0104EPWR-Texas-Instruments-datasheet-32026794.pdf?src-supplier=Newark; ComponentLink12Description: https://datasheet.octopart.com:443/TXS0104EPWR-Texas-Instruments-datasheet-32026794.pdf?src-supplier=Newark; ComponentLink13URL: https://datasheet.octopart.com:443/TXS0104EPWR-Texas-Instruments-datasheet-164421215.pdf?src-supplier=SHENGYU+ELECTRONICS; ComponentLink13Description: https://datasheet.octopart.com:443/TXS0104EPWR-Texas-Instruments-datasheet-164421215.pdf?src-supplier=SHENGYU+ELECTRONICS; ComponentLink14URL: https://datasheet.octopart.com:443/TXS0104EPWR-Texas-Instruments-datasheet-165804952.pdf?src-supplier=LCSC; ComponentLink14Description: https://datasheet.octopart.com:443/TXS0104EPWR-Texas-Instruments-datasheet-165804952.pdf?src-supplier=LCSC; ComponentLink15URL: https://datasheet.octopart.com:443/TXS0104EPWR-Texas-Instruments-datasheet-159118389.pdf?src-supplier=LCSC; ComponentLink15Description: https://datasheet.octopart.com:443/TXS0104EPWR-Texas-Instruments-datasheet-159118389.pdf?src-supplier=LCSC; ComponentLink16URL: https://datasheet.octopart.com:443/TXS0104EPWR-Texas-Instruments-datasheet-137316104.pdf?src-supplier=Future+Electronics; ComponentLink16Description: https://datasheet.octopart.com:443/TXS0104EPWR-Texas-Instruments-datasheet-137316104.pdf?src-supplier=Future+Electronics; ComponentLink17URL: https://datasheet.octopart.com:443/TXS0104EPWR-Texas-Instruments-datasheet-10979038.pdf?src-supplier=Arrow+Electronics; ComponentLink17Description: https://datasheet.octopart.com:443/TXS0104EPWR-Texas-Instruments-datasheet-10979038.pdf?src-supplier=Arrow+Electronics; ComponentLink18URL: https://datasheet.octopart.com:443/TXS0104EPWR-Texas-Instruments-datasheet-18313.pdf?src-supplier=DigiKey; ComponentLink18Description: https://datasheet.octopart.com:443/TXS0104EPWR-Texas-Instruments-datasheet-18313.pdf?src-supplier=DigiKey; ComponentLink19URL: http://sigma.octopart.com:80/conflict_mineral_statement/Texas-Instruments-company-63.pdf?src-supplier=Compliance+Statements; ComponentLink19Description: http://sigma.octopart.com:80/conflict_mineral_statement/Texas-Instruments-company-63.pdf?src-supplier=Compliance+Statements; ComponentLink20URL: http://sigma.octopart.com:80/reach_statement/Texas-Instruments-company-64.pdf?src-supplier=Compliance+Statements; ComponentLink20Description: http://sigma.octopart.com:80/reach_statement/Texas-Instruments-company-64.pdf?src-supplier=Compliance+Statements; LCSC Part Number: C44955
footprint TXS0104EPWR
pins: 1 VCCA (power), 2 A1 (io), 3 A2 (io), 4 A3 (io), 5 A4 (io), 6 NC, 7 GND (power), 8 OE (in), 9 NC, 10 B4 (in), 11 B3 (in), 12 B2 (in), 13 B1 (in), 14 VCCB (power)